# Altium schematic symbol library TPS76318DBVR.SchLib: 1 symbol
Pins are listed as number, name and electrical type; pins without a type are passive.

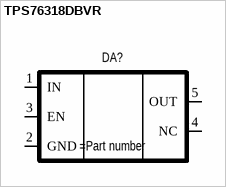
[diagram p0: symbol TPS76318DBVR]

## TPS76318DBVR
designator DA?
150-mA, Low-Dropout Linear Voltage Regulator with fixed output 1,8V /
pins: 1 IN, 2 GND, 3 EN, 4 NC, 5 OUT